# EAGLE library part LEGO_MINDSTORM_CON (library Connectors)
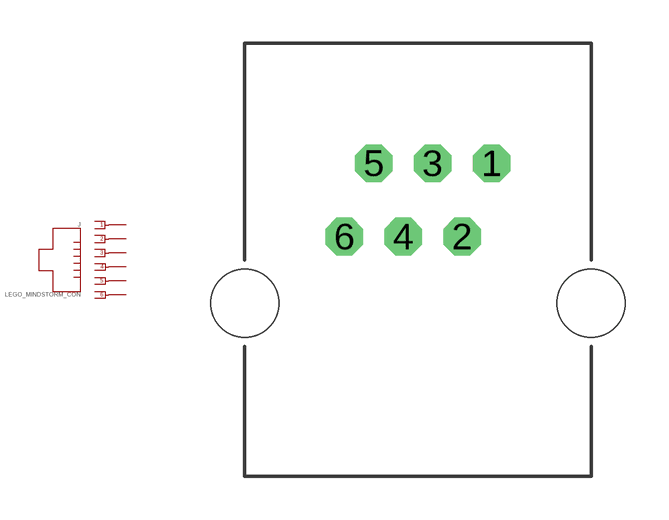
[diagram p9: symbol with the pads of LEGO_MINDSTORM_CON; footprint LEGO_MINDSTORM_CON]

Designator prefix J

## LEGO_MINDSTORM_CON  [LEGO_MINDSTORM_CON]
1  1  pas
2  2  pas
3  3  pas
4  4  pas
5  5  pas
6  6  pas

## Footprint LEGO_MINDSTORM_CON (pad centres in mm)
drill 0.8 octagon: 1 2.55,4.84; 2 1.53,2.3; 3 0.51,4.84; 4 -0.51,2.3; 5 -1.53,4.84; 6 -2.55,2.3
hole 2.36 at 6,0
hole 2.36 at -6,0